# EAGLE library part 6620XX21022_66202021022 (library Wurth_Connectors_WR-MPC3)
WR-MPC3 3.00 mm Male Dual Row Angled Header w. Plastic Pegs KIND PROPERTIES Pitch 3 mm Gender Male MATERIAL PROPERTIES Insulator Material LCP Insulator Flammability Rating UL94 V-0 Insulator Color Black Contact Material Copper Alloy Contact Plating： Tin Contact Type Stamped GENERAL INFORMATION Operating Temperature -40 up to +105 °C Working Voltage 250 V (AC) Withstanding Voltage 1500 V (AC) Contact Resistance 10 mΩ RISO 1000 MΩ CERTIFICATION UL Approval E323964 WIRE PROPERTIES Packaging ：Tube <https://katalog.we-online.com/media/images/v2/o33169v209%20Family_WR-MPC3_6620xx21022.jpg> Details see: https://katalog.we-online.com/en/em/MPC3_3_00_MALE_DUAL_ROW_ANGLED_HEADER_W_PLASTIC_PEGS_6620XX21022 Created by Yingchun,Shan 2019-11-13 2019 (C) Würth Elektronik
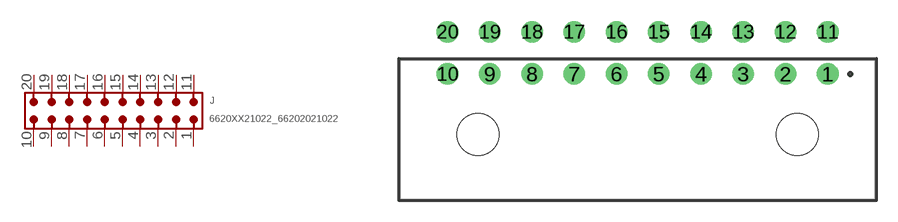
[diagram p68: symbol with the pads of 66202021022; footprint 66202021022]

Designator prefix J

## 6620XX21022_66202021022 (CONTACT-RESISTANCE: 10Ohm; DATASHEET-URL: https://www.we-online.com/redexpert/spec/66202021022?ae; GENDER: Male; IR: 5A; MOUNT: THT; PART-NUMBER: 66202021022; PINS: 20; PITCH: 3mm; ROWS: Dual; TOL-R: max.; TYPE: Right Angled; VALUE: 66202021022; WORKING-VOLTAGE: 250V(AC))  [66202021022]
1  1  pas
2  2  pas
3  3  pas
4  4  pas
5  5  pas
6  6  pas
7  7  pas
8  8  pas
9  9  pas
10  10  pas
11  11  pas
12  12  pas
13  13  pas
14  14  pas
15  15  pas
16  16  pas
17  17  pas
18  18  pas
19  19  pas
20  20  pas

## Footprint 66202021022 (pad centres in mm)
WR-MPC3 3.00 mm Male Dual Row Angled Header w. Plastic Pegs,20 Pins
drill 1.02: 1 13.5,3.95; 2 10.5,3.95; 3 7.5,3.95; 4 4.5,3.95; 5 1.5,3.95; 6 -1.5,3.95; 7 -4.5,3.95; 8 -7.5,3.95; 9 -10.5,3.95; 10 -13.5,3.95; 11 13.5,6.95; 12 10.5,6.95; 13 7.5,6.95; 14 4.5,6.95; 15 1.5,6.95; 16 -1.5,6.95; 17 -4.5,6.95; 18 -7.5,6.95; 19 -10.5,6.95; 20 -13.5,6.95
hole 3 at 11.34,-0.35
hole 3 at -11.34,-0.35